# EAGLE library part DRV8837 (library apro)
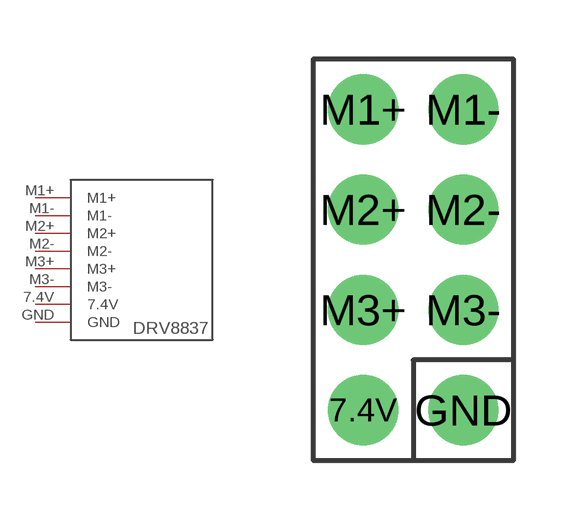
[diagram p6: symbol with the pads of DRV8837; footprint DRV8837]

Designator prefix -

## DRV8837  [DRV8837]
7.4V  7.4V
GND  GND
M1+  M1+
M1-  M1-
M2+  M2+
M2-  M2-
M3+  M3+
M3-  M3-

## Footprint DRV8837 (pad centres in mm)
drill 1 pad 1.778: 7.4V -1.27,-3.81; GND 1.27,-3.81; M1+ -1.27,3.81; M1- 1.27,3.81; M2+ -1.27,1.27; M2- 1.27,1.27; M3+ -1.27,-1.27; M3- 1.27,-1.27